# Altium schematic symbol library WR-WTB.SchLib: 259 symbols (part 5 of 5)
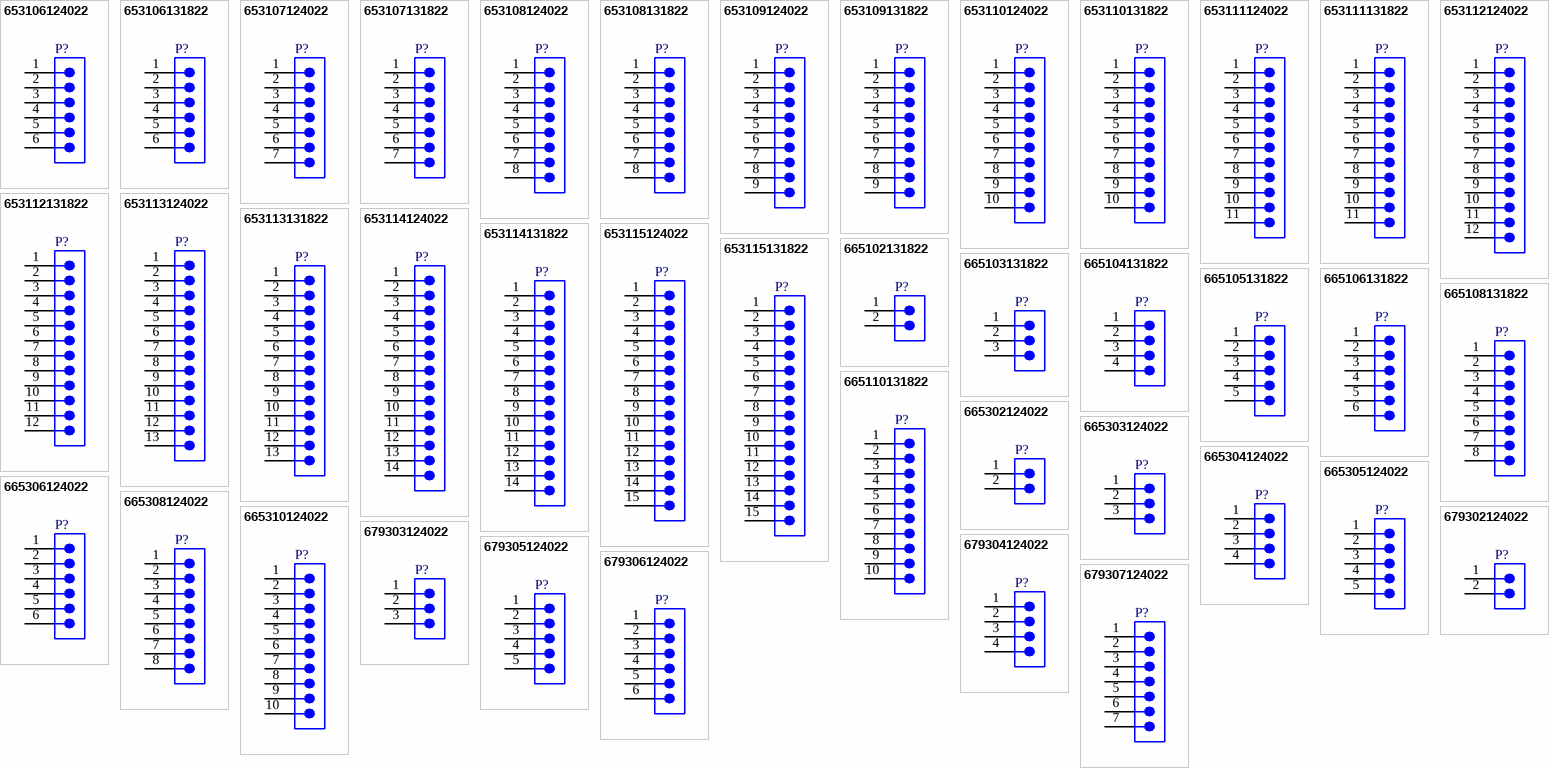
[diagram p10: symbols 653106124022 to 679307124022]

## 679302124022
designator P?  (value not drawn)
WR-WTB SMT Male Vertical Shrouded Header, pitch 1.5mm, 2pins; Manufacturer: Wurth Elektronik; Contact Resistance: 20mohm; Rated Current: 1A; Working Voltage: 50V(AC); Withstanding Voltage: 500V(AC); Manufacturer Part Number: 679302124022; Product Series: WR-WTB; ComponentLink1Description: Website Link; ComponentLink1URL: https://www.we-online.com; ComponentLink2Description: Datasheet Link; ComponentLink2URL: https://www.we-online.com/components/products/datasheet/679302124022; Mount: Surface Mount; Operating Temperature Min: -25degC; Operating Temperature Max: 85degC; Packaging: Tape and Reel; Length: 6mm; Width: 5.2mm; Height: 3.7mm; Gender: Male; Number of Pins: 2; Number of Rows: 1; Orientation: Vertical; Lead Pitch: 1.5mm
footprint 679302124022
pins: 1, 2

## 679303124022
designator P?  (value not drawn)
WR-WTB SMT Male Vertical Shrouded Header, pitch 1.5mm, 3pins; Manufacturer: Wurth Elektronik; Contact Resistance: 20mohm; Rated Current: 1A; Working Voltage: 50V(AC); Withstanding Voltage: 500V(AC); Manufacturer Part Number: 679303124022; Product Series: WR-WTB; ComponentLink1Description: Website Link; ComponentLink1URL: https://www.we-online.com; ComponentLink2Description: Datasheet Link; ComponentLink2URL: https://www.we-online.com/components/products/datasheet/679303124022; Mount: Surface Mount; Operating Temperature Min: -25degC; Operating Temperature Max: 85degC; Packaging: Tape and Reel; Length: 7.5mm; Width: 5.2mm; Height: 3.7mm; Gender: Male; Number of Pins: 3; Number of Rows: 1; Orientation: Vertical; Lead Pitch: 1.5mm
footprint 679303124022
pins: 1, 2, 3

## 679304124022
designator P?  (value not drawn)
WR-WTB SMT Male Vertical Shrouded Header, pitch 1.5mm, 4pins; Manufacturer: Wurth Elektronik; Contact Resistance: 20mohm; Rated Current: 1A; Working Voltage: 50V(AC); Withstanding Voltage: 500V(AC); Manufacturer Part Number: 679304124022; Product Series: WR-WTB; ComponentLink1Description: Website Link; ComponentLink1URL: https://www.we-online.com; ComponentLink2Description: Datasheet Link; ComponentLink2URL: https://www.we-online.com/components/products/datasheet/679304124022; Mount: Surface Mount; Operating Temperature Min: -25degC; Operating Temperature Max: 85degC; Packaging: Tape and Reel; Length: 9mm; Width: 5.2mm; Height: 3.7mm; Gender: Male; Number of Pins: 4; Number of Rows: 1; Orientation: Vertical; Lead Pitch: 1.5mm
footprint 679304124022
pins: 1, 2, 3, 4

## 679305124022
designator P?  (value not drawn)
WR-WTB SMT Male Vertical Shrouded Header, pitch 1.5mm, 5pins; Manufacturer: Wurth Elektronik; Contact Resistance: 20mohm; Rated Current: 1A; Working Voltage: 50V(AC); Withstanding Voltage: 500V(AC); Manufacturer Part Number: 679305124022; Product Series: WR-WTB; ComponentLink1Description: Website Link; ComponentLink1URL: https://www.we-online.com; ComponentLink2Description: Datasheet Link; ComponentLink2URL: https://www.we-online.com/components/products/datasheet/679305124022; Mount: Surface Mount; Operating Temperature Min: -25degC; Operating Temperature Max: 85degC; Packaging: Tape and Reel; Length: 10.5mm; Width: 5.2mm; Height: 3.7mm; Gender: Male; Number of Pins: 5; Number of Rows: 1; Orientation: Vertical; Lead Pitch: 1.5mm
footprint 679305124022
pins: 1, 2, 3, 4, 5

## 679306124022
designator P?  (value not drawn)
WR-WTB SMT Male Vertical Shrouded Header, pitch 1.5mm, 6pins; Manufacturer: Wurth Elektronik; Contact Resistance: 20mohm; Rated Current: 1A; Working Voltage: 50V(AC); Withstanding Voltage: 500V(AC); Manufacturer Part Number: 679306124022; Product Series: WR-WTB; ComponentLink1Description: Website Link; ComponentLink1URL: https://www.we-online.com; ComponentLink2Description: Datasheet Link; ComponentLink2URL: https://www.we-online.com/components/products/datasheet/679306124022; Mount: Surface Mount; Operating Temperature Min: -25degC; Operating Temperature Max: 85degC; Packaging: Tape and Reel; Length: 12mm; Width: 5.2mm; Height: 3.7mm; Gender: Male; Number of Pins: 6; Number of Rows: 1; Orientation: Vertical; Lead Pitch: 1.5mm
footprint 679306124022
pins: 1, 2, 3, 4, 5, 6

## 679307124022
designator P?  (value not drawn)
WR-WTB SMT Male Vertical Shrouded Header, pitch 1.5mm, 7pins; Manufacturer: Wurth Elektronik; Contact Resistance: 20mohm; Rated Current: 1A; Working Voltage: 50V(AC); Withstanding Voltage: 500V(AC); Manufacturer Part Number: 679307124022; Product Series: WR-WTB; ComponentLink1Description: Website Link; ComponentLink1URL: https://www.we-online.com; ComponentLink2Description: Datasheet Link; ComponentLink2URL: https://www.we-online.com/components/products/datasheet/679307124022; Mount: Surface Mount; Operating Temperature Min: -25degC; Operating Temperature Max: 85degC; Packaging: Tape and Reel; Length: 13.5mm; Width: 5.2mm; Height: 3.7mm; Gender: Male; Number of Pins: 7; Number of Rows: 1; Orientation: Vertical; Lead Pitch: 1.5mm
footprint 679307124022
pins: 1, 2, 3, 4, 5, 6, 7

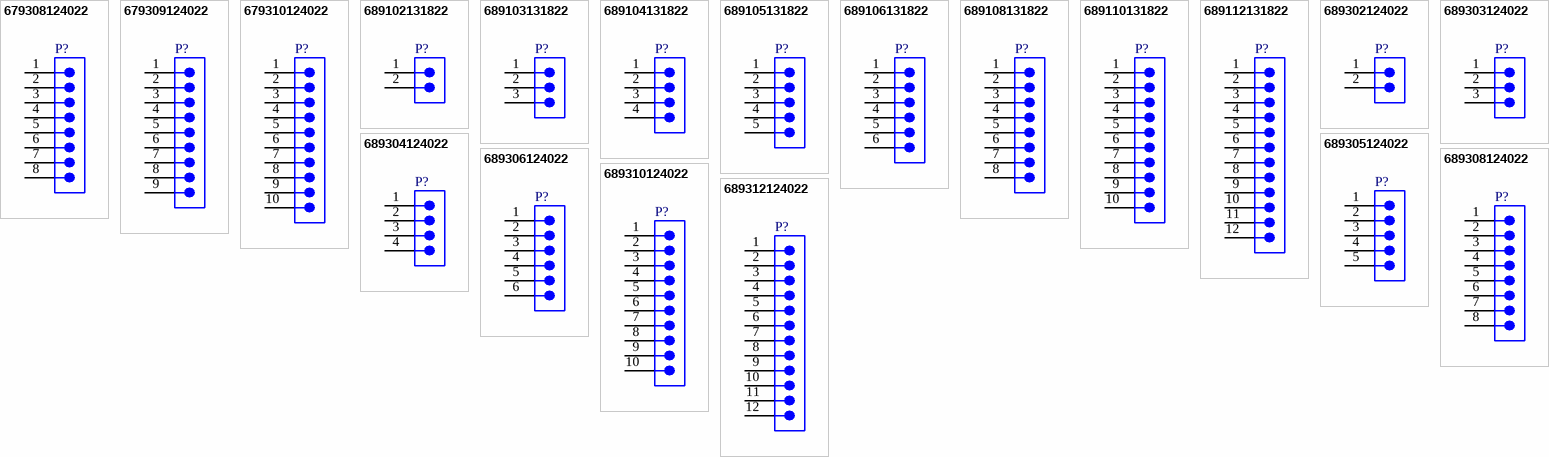
[diagram p6: symbols 679308124022 to 689312124022]

## 679308124022
designator P?  (value not drawn)
WR-WTB SMT Male Vertical Shrouded Header, pitch 1.5mm, 8pins; Manufacturer: Wurth Elektronik; Contact Resistance: 20mohm; Rated Current: 1A; Working Voltage: 50V(AC); Withstanding Voltage: 500V(AC); Manufacturer Part Number: 679308124022; Product Series: WR-WTB; ComponentLink1Description: Website Link; ComponentLink1URL: https://www.we-online.com; ComponentLink2Description: Datasheet Link; ComponentLink2URL: https://www.we-online.com/components/products/datasheet/679308124022; Mount: Surface Mount; Operating Temperature Min: -25degC; Operating Temperature Max: 85degC; Packaging: Tape and Reel; Length: 15mm; Width: 5.2mm; Height: 3.7mm; Gender: Male; Number of Pins: 8; Number of Rows: 1; Orientation: Vertical; Lead Pitch: 1.5mm
footprint 679308124022
pins: 1, 2, 3, 4, 5, 6, 7, 8

## 679309124022
designator P?  (value not drawn)
WR-WTB SMT Male Vertical Shrouded Header, pitch 1.5mm, 9pins; Manufacturer: Wurth Elektronik; Contact Resistance: 20mohm; Rated Current: 1A; Working Voltage: 50V(AC); Withstanding Voltage: 500V(AC); Manufacturer Part Number: 679309124022; Product Series: WR-WTB; ComponentLink1Description: Website Link; ComponentLink1URL: https://www.we-online.com; ComponentLink2Description: Datasheet Link; ComponentLink2URL: https://www.we-online.com/components/products/datasheet/679309124022; Mount: Surface Mount; Operating Temperature Min: -25degC; Operating Temperature Max: 85degC; Packaging: Tape and Reel; Length: 16.5mm; Width: 5.2mm; Height: 3.7mm; Gender: Male; Number of Pins: 9; Number of Rows: 1; Orientation: Vertical; Lead Pitch: 1.5mm
footprint 679309124022
pins: 1, 2, 3, 4, 5, 6, 7, 8, 9

## 679310124022
designator P?  (value not drawn)
WR-WTB SMT Male Vertical Shrouded Header, pitch 1.5mm, 10pins; Manufacturer: Wurth Elektronik; Contact Resistance: 20mohm; Rated Current: 1A; Working Voltage: 50V(AC); Withstanding Voltage: 500V(AC); Manufacturer Part Number: 679310124022; Product Series: WR-WTB; ComponentLink1Description: Website Link; ComponentLink1URL: https://www.we-online.com; ComponentLink2Description: Datasheet Link; ComponentLink2URL: https://www.we-online.com/components/products/datasheet/679310124022; Mount: Surface Mount; Operating Temperature Min: -25degC; Operating Temperature Max: 85degC; Packaging: Tape and Reel; Length: 18mm; Width: 5.2mm; Height: 3.7mm; Gender: Male; Number of Pins: 10; Number of Rows: 1; Orientation: Vertical; Lead Pitch: 1.5mm
footprint 679310124022
pins: 1, 2, 3, 4, 5, 6, 7, 8, 9, 10

## 689102131822
designator P?  (value not drawn)
WR-WTB SMT Horizontal Male Header, pitch 0.8mm, 2pins; Manufacturer: Wurth Elektronik; Contact Resistance: 20mohm; Rated Current: 0.5A; Working Voltage: 30V(AC); Withstanding Voltage: 200V(AC); Manufacturer Part Number: 689102131822; Product Series: WR-WTB; ComponentLink1Description: Website Link; ComponentLink1URL: https://www.we-online.com; ComponentLink2Description: Datasheet Link; ComponentLink2URL: https://www.we-online.com/components/products/datasheet/689102131822; Mount: Surface Mount; Operating Temperature Min: -25degC; Operating Temperature Max: 85degC; Packaging: Tape and Reel; Gender: Male; Number of Pins: 2; Number of Rows: 1; Orientation: Horizontal; Lead Pitch: 0.8mm
footprint 689102131822
pins: 1, 2

## 689103131822
designator P?  (value not drawn)
WR-WTB SMT Horizontal Male Header, pitch 0.8mm, 3pins; Manufacturer: Wurth Elektronik; Contact Resistance: 20mohm; Rated Current: 0.5A; Working Voltage: 30V(AC); Withstanding Voltage: 200V(AC); Manufacturer Part Number: 689103131822; Product Series: WR-WTB; ComponentLink1Description: Website Link; ComponentLink1URL: https://www.we-online.com; ComponentLink2Description: Datasheet Link; ComponentLink2URL: https://www.we-online.com/components/products/datasheet/689103131822; Mount: Surface Mount; Operating Temperature Min: -25degC; Operating Temperature Max: 85degC; Packaging: Tape and Reel; Gender: Male; Number of Pins: 3; Number of Rows: 1; Orientation: Horizontal; Lead Pitch: 0.8mm
footprint 689103131822
pins: 1, 2, 3

## 689104131822
designator P?  (value not drawn)
WR-WTB SMT Horizontal Male Header, pitch 0.8mm, 4pins; Manufacturer: Wurth Elektronik; Contact Resistance: 20mohm; Rated Current: 0.5A; Working Voltage: 30V(AC); Withstanding Voltage: 200V(AC); Manufacturer Part Number: 689104131822; Product Series: WR-WTB; ComponentLink1Description: Website Link; ComponentLink1URL: https://www.we-online.com; ComponentLink2Description: Datasheet Link; ComponentLink2URL: https://www.we-online.com/components/products/datasheet/689104131822; Mount: Surface Mount; Operating Temperature Min: -25degC; Operating Temperature Max: 85degC; Packaging: Tape and Reel; Gender: Male; Number of Pins: 4; Number of Rows: 1; Orientation: Horizontal; Lead Pitch: 0.8mm
footprint 689104131822
pins: 1, 2, 3, 4

## 689105131822
designator P?  (value not drawn)
WR-WTB SMT Horizontal Male Header, pitch 0.8mm, 5pins; Manufacturer: Wurth Elektronik; Contact Resistance: 20mohm; Rated Current: 0.5A; Working Voltage: 30V(AC); Withstanding Voltage: 200V(AC); Manufacturer Part Number: 689105131822; Product Series: WR-WTB; ComponentLink1Description: Website Link; ComponentLink1URL: https://www.we-online.com; ComponentLink2Description: Datasheet Link; ComponentLink2URL: https://www.we-online.com/components/products/datasheet/689105131822; Mount: Surface Mount; Operating Temperature Min: -25degC; Operating Temperature Max: 85degC; Packaging: Tape and Reel; Gender: Male; Number of Pins: 5; Number of Rows: 1; Orientation: Horizontal; Lead Pitch: 0.8mm
footprint 689105131822
pins: 1, 2, 3, 4, 5

## 689106131822
designator P?  (value not drawn)
WR-WTB SMT Horizontal Male Header, pitch 0.8mm, 6pins; Manufacturer: Wurth Elektronik; Contact Resistance: 20mohm; Rated Current: 0.5A; Working Voltage: 30V(AC); Withstanding Voltage: 200V(AC); Manufacturer Part Number: 689106131822; Product Series: WR-WTB; ComponentLink1Description: Website Link; ComponentLink1URL: https://www.we-online.com; ComponentLink2Description: Datasheet Link; ComponentLink2URL: https://www.we-online.com/components/products/datasheet/689106131822; Mount: Surface Mount; Operating Temperature Min: -25degC; Operating Temperature Max: 85degC; Packaging: Tape and Reel; Gender: Male; Number of Pins: 6; Number of Rows: 1; Orientation: Horizontal; Lead Pitch: 0.8mm
footprint 689106131822
pins: 1, 2, 3, 4, 5, 6

## 689108131822
designator P?  (value not drawn)
WR-WTB SMT Horizontal Male Header, pitch 0.8mm, 8pins; Manufacturer: Wurth Elektronik; Contact Resistance: 20mohm; Rated Current: 0.5A; Working Voltage: 30V(AC); Withstanding Voltage: 200V(AC); Manufacturer Part Number: 689108131822; Product Series: WR-WTB; ComponentLink1Description: Website Link; ComponentLink1URL: https://www.we-online.com; ComponentLink2Description: Datasheet Link; ComponentLink2URL: https://www.we-online.com/components/products/datasheet/689108131822; Mount: Surface Mount; Operating Temperature Min: -25degC; Operating Temperature Max: 85degC; Packaging: Tape and Reel; Gender: Male; Number of Pins: 8; Number of Rows: 1; Orientation: Horizontal; Lead Pitch: 0.8mm
footprint 689108131822
pins: 1, 2, 3, 4, 5, 6, 7, 8

## 689110131822
designator P?  (value not drawn)
WR-WTB SMT Horizontal Male Header, pitch 0.8mm, 10pins; Manufacturer: Wurth Elektronik; Contact Resistance: 20mohm; Rated Current: 0.5A; Working Voltage: 30V(AC); Withstanding Voltage: 200V(AC); Manufacturer Part Number: 689110131822; Product Series: WR-WTB; ComponentLink1Description: Website Link; ComponentLink1URL: https://www.we-online.com; ComponentLink2Description: Datasheet Link; ComponentLink2URL: https://www.we-online.com/components/products/datasheet/689110131822; Mount: Surface Mount; Operating Temperature Min: -25degC; Operating Temperature Max: 85degC; Packaging: Tape and Reel; Gender: Male; Number of Pins: 10; Number of Rows: 1; Orientation: Horizontal; Lead Pitch: 0.8mm
footprint 689110131822
pins: 1, 2, 3, 4, 5, 6, 7, 8, 9, 10

## 689112131822
designator P?  (value not drawn)
WR-WTB SMT Horizontal Male Header, pitch 0.8mm, 12pins; Manufacturer: Wurth Elektronik; Contact Resistance: 20mohm; Rated Current: 0.5A; Working Voltage: 30V(AC); Withstanding Voltage: 200V(AC); Manufacturer Part Number: 689112131822; Product Series: WR-WTB; ComponentLink1Description: Website Link; ComponentLink1URL: https://www.we-online.com; ComponentLink2Description: Datasheet Link; ComponentLink2URL: https://www.we-online.com/components/products/datasheet/689112131822; Mount: Surface Mount; Operating Temperature Min: -25degC; Operating Temperature Max: 85degC; Packaging: Tape and Reel; Gender: Male; Number of Pins: 12; Number of Rows: 1; Orientation: Horizontal; Lead Pitch: 0.8mm
footprint 689112131822
pins: 1, 2, 3, 4, 5, 6, 7, 8, 9, 10, 11, 12

## 689302124022
designator P?  (value not drawn)
WR-WTB SMT Vertical Male Header, pitch 0.8mm, 2pins; Manufacturer: Wurth Elektronik; Contact Resistance: 20mohm; Rated Current: 0.5A; Working Voltage: 30V(AC); Withstanding Voltage: 200V(AC); Manufacturer Part Number: 689302124022; Product Series: WR-WTB; ComponentLink1Description: Website Link; ComponentLink1URL: https://www.we-online.com; ComponentLink2Description: Datasheet Link; ComponentLink2URL: https://www.we-online.com/components/products/datasheet/689302124022; Mount: Surface Mount; Operating Temperature Min: -25degC; Operating Temperature Max: 85degC; Packaging: Tape and Reel; Gender: Male; Number of Pins: 2; Number of Rows: 1; Orientation: Vertical; Lead Pitch: 0.8mm
footprint 689302124022
pins: 1, 2

## 689303124022
designator P?  (value not drawn)
WR-WTB SMT Vertical Male Header, pitch 0.8mm, 3pins; Manufacturer: Wurth Elektronik; Contact Resistance: 20mohm; Rated Current: 0.5A; Working Voltage: 30V(AC); Withstanding Voltage: 200V(AC); Manufacturer Part Number: 689303124022; Product Series: WR-WTB; ComponentLink1Description: Website Link; ComponentLink1URL: https://www.we-online.com; ComponentLink2Description: Datasheet Link; ComponentLink2URL: https://www.we-online.com/components/products/datasheet/689303124022; Mount: Surface Mount; Operating Temperature Min: -25degC; Operating Temperature Max: 85degC; Packaging: Tape and Reel; Gender: Male; Number of Pins: 3; Number of Rows: 1; Orientation: Vertical; Lead Pitch: 0.8mm
footprint 689303124022
pins: 1, 2, 3

## 689304124022
designator P?  (value not drawn)
WR-WTB SMT Vertical Male Header, pitch 0.8mm, 4pins; Manufacturer: Wurth Elektronik; Contact Resistance: 20mohm; Rated Current: 0.5A; Working Voltage: 30V(AC); Withstanding Voltage: 200V(AC); Manufacturer Part Number: 689304124022; Product Series: WR-WTB; ComponentLink1Description: Website Link; ComponentLink1URL: https://www.we-online.com; ComponentLink2Description: Datasheet Link; ComponentLink2URL: https://www.we-online.com/components/products/datasheet/689304124022; Mount: Surface Mount; Operating Temperature Min: -25degC; Operating Temperature Max: 85degC; Packaging: Tape and Reel; Gender: Male; Number of Pins: 4; Number of Rows: 1; Orientation: Vertical; Lead Pitch: 0.8mm
footprint 689304124022
pins: 1, 2, 3, 4

## 689305124022
designator P?  (value not drawn)
WR-WTB SMT Vertical Male Header, pitch 0.8mm, 5pins; Manufacturer: Wurth Elektronik; Contact Resistance: 20mohm; Rated Current: 0.5A; Working Voltage: 30V(AC); Withstanding Voltage: 200V(AC); Manufacturer Part Number: 689305124022; Product Series: WR-WTB; ComponentLink1Description: Website Link; ComponentLink1URL: https://www.we-online.com; ComponentLink2Description: Datasheet Link; ComponentLink2URL: https://www.we-online.com/components/products/datasheet/689305124022; Mount: Surface Mount; Operating Temperature Min: -25degC; Operating Temperature Max: 85degC; Packaging: Tape and Reel; Gender: Male; Number of Pins: 5; Number of Rows: 1; Orientation: Vertical; Lead Pitch: 0.8mm
footprint 689305124022
pins: 1, 2, 3, 4, 5

## 689306124022
designator P?  (value not drawn)
WR-WTB SMT Vertical Male Header, pitch 0.8mm, 6pins; Manufacturer: Wurth Elektronik; Contact Resistance: 20mohm; Rated Current: 0.5A; Working Voltage: 30V(AC); Withstanding Voltage: 200V(AC); Manufacturer Part Number: 689306124022; Product Series: WR-WTB; ComponentLink1Description: Website Link; ComponentLink1URL: https://www.we-online.com; ComponentLink2Description: Datasheet Link; ComponentLink2URL: https://www.we-online.com/components/products/datasheet/689306124022; Mount: Surface Mount; Operating Temperature Min: -25degC; Operating Temperature Max: 85degC; Packaging: Tape and Reel; Gender: Male; Number of Pins: 6; Number of Rows: 1; Orientation: Vertical; Lead Pitch: 0.8mm
footprint 689306124022
pins: 1, 2, 3, 4, 5, 6

## 689308124022
designator P?  (value not drawn)
WR-WTB SMT Vertical Male Header, pitch 0.8mm, 8pins; Manufacturer: Wurth Elektronik; Contact Resistance: 20mohm; Rated Current: 0.5A; Working Voltage: 30V(AC); Withstanding Voltage: 200V(AC); Manufacturer Part Number: 689308124022; Product Series: WR-WTB; ComponentLink1Description: Website Link; ComponentLink1URL: https://www.we-online.com; ComponentLink2Description: Datasheet Link; ComponentLink2URL: https://www.we-online.com/components/products/datasheet/689308124022; Mount: Surface Mount; Operating Temperature Min: -25degC; Operating Temperature Max: 85degC; Packaging: Tape and Reel; Gender: Male; Number of Pins: 8; Number of Rows: 1; Orientation: Vertical; Lead Pitch: 0.8mm
footprint 689308124022
pins: 1, 2, 3, 4, 5, 6, 7, 8

## 689310124022
designator P?  (value not drawn)
WR-WTB SMT Vertical Male Header, pitch 0.8mm, 10pins; Manufacturer: Wurth Elektronik; Contact Resistance: 20mohm; Rated Current: 0.5A; Working Voltage: 30V(AC); Withstanding Voltage: 200V(AC); Manufacturer Part Number: 689310124022; Product Series: WR-WTB; ComponentLink1Description: Website Link; ComponentLink1URL: https://www.we-online.com; ComponentLink2Description: Datasheet Link; ComponentLink2URL: https://www.we-online.com/components/products/datasheet/689310124022; Mount: Surface Mount; Operating Temperature Min: -25degC; Operating Temperature Max: 85degC; Packaging: Tape and Reel; Gender: Male; Number of Pins: 10; Number of Rows: 1; Orientation: Vertical; Lead Pitch: 0.8mm
footprint 689310124022
pins: 1, 2, 3, 4, 5, 6, 7, 8, 9, 10

## 689312124022
designator P?  (value not drawn)
WR-WTB SMT Vertical Male Header, pitch 0.8mm, 12pins; Manufacturer: Wurth Elektronik; Contact Resistance: 20mohm; Rated Current: 0.5A; Working Voltage: 30V(AC); Withstanding Voltage: 200V(AC); Manufacturer Part Number: 689312124022; Product Series: WR-WTB; ComponentLink1Description: Website Link; ComponentLink1URL: https://www.we-online.com; ComponentLink2Description: Datasheet Link; ComponentLink2URL: https://www.we-online.com/components/products/datasheet/689312124022; Mount: Surface Mount; Operating Temperature Min: -25degC; Operating Temperature Max: 85degC; Packaging: Tape and Reel; Gender: Male; Number of Pins: 12; Number of Rows: 1; Orientation: Vertical; Lead Pitch: 0.8mm
footprint 689312124022
pins: 1, 2, 3, 4, 5, 6, 7, 8, 9, 10, 11, 12